# EAGLE library part 1X08_HEADER (library ME433_Hr)
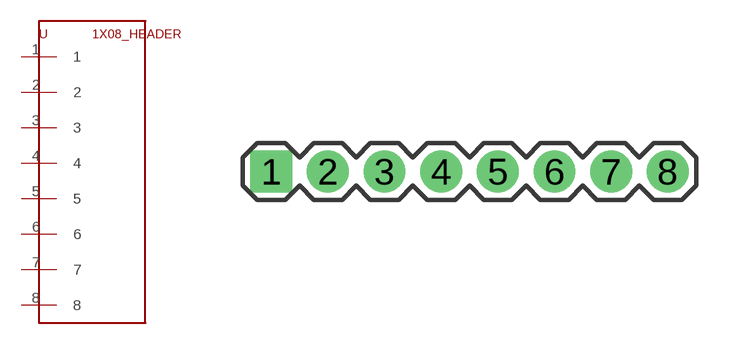
[diagram p3: symbol with the pads of 1X08; footprint 1X08]

Designator prefix -

## 1X08_HEADER  [1X08]
1  1
2  2
3  3
4  4
5  5
6  6
7  7
8  8

## Footprint 1X08 (pad centres in mm)
drill 1.016 pad 1.88 square: 1 0,0
drill 1.016 pad 1.88 round: 2 2.54,0; 3 5.08,0; 4 7.62,0; 5 10.16,0; 6 12.7,0; 7 15.24,0; 8 17.78,0